# Altium schematic symbol library LAB_B3_209_V1.SchLib: 13 symbols
Pins are listed as number, name and electrical type; pins without a type are passive.

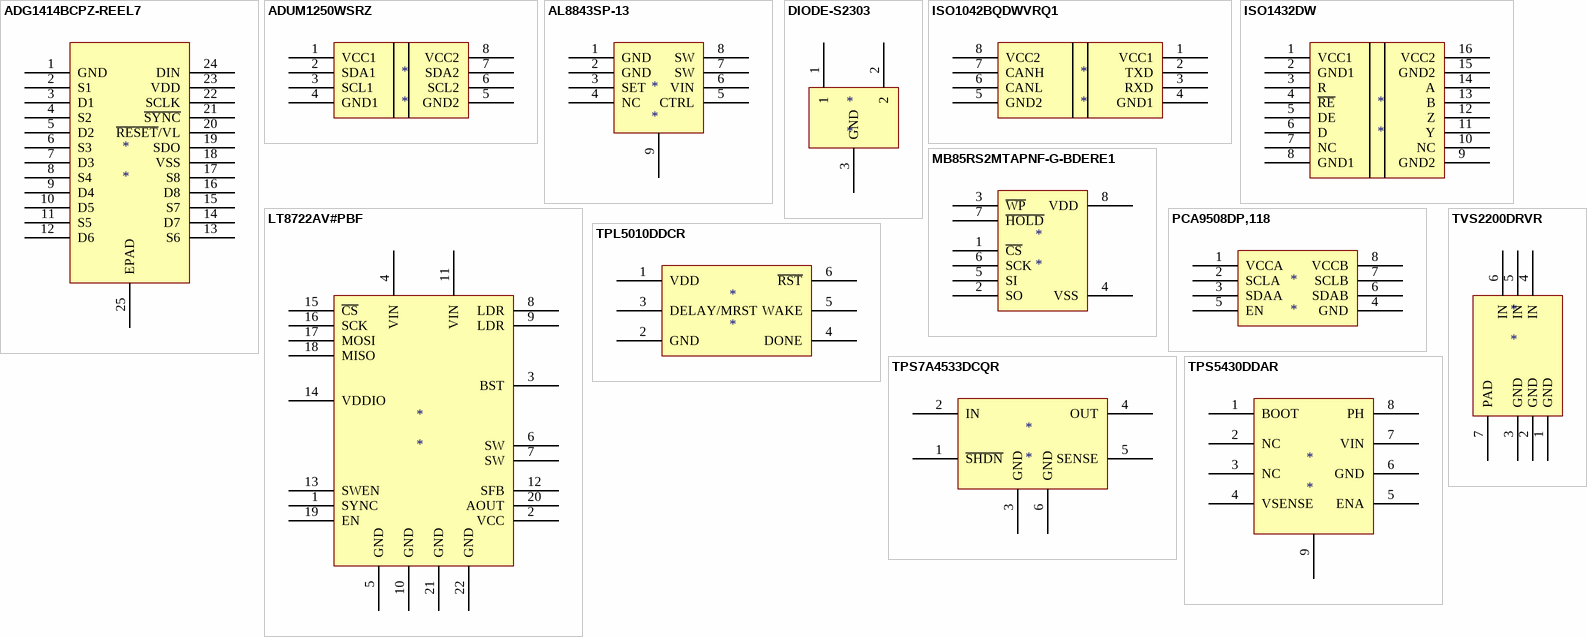
[diagram p0: symbols ADG1414BCPZ-REEL7 to TVS2200DRVR]

## ADG1414BCPZ-REEL7
designator *
footprint ADG1414BCPZ-REEL7 (PQFN, 24-Leads, Body 4.00x4.00mm, Pitch 0.50mm, Thermal Pad 2.50x2.50mm, IPC Medium Density)
pins: 1 GND, 2 S1, 3 D1, 4 S2, 5 D2, 6 S3, 7 D3, 8 S4, 9 D4, 10 D5, 11 S5, 12 D6, 13 S6, 14 D7, 15 S7, 16 D8, 17 S8, 18 VSS, 19 SDO, 20 ~{RESET}/VL, 21 ~{SYNC}, 22 SCLK, 23 VDD, 24 DIN, 25 EPAD

## ADUM1250WSRZ
designator *
footprint ADUM1250WSRZ
pins: 1 VCC1, 2 SDA1, 3 SCL1, 4 GND1, 5 GND2, 6 SCL2, 7 SDA2, 8 VCC2

## AL8843SP-13
designator *
footprint AL8843SP-13
pins: 1 GND, 2 GND, 3 SET, 4 NC, 5 CTRL, 6 VIN, 7 SW, 8 SW, 9 EPAD

## DIODE-S2303
designator *
footprint DIODE SOT23 (SOT 23 _ 1-3-2)
pins: 1, 2, 3 GND

## ISO1042BQDWVRQ1
designator *
footprint ISO1042BQDWVRQ1
pins: 1 VCC1, 2 TXD, 3 RXD, 4 GND1, 5 GND2, 6 CANL, 7 CANH, 8 VCC2

## ISO1432DW
designator *
footprint ISO1432DW
pins: 1 VCC1, 2 GND1, 3 R, 4 ~{RE}, 5 DE, 6 D, 7 NC, 8 GND1, 9 GND2, 10 NC, 11 Y, 12 Z, 13 B, 14 A, 15 GND2, 16 VCC2

## LT8722AV#PBF
designator *
footprint LT8722AV#PBF (QFN, 18-Leads, Body 3.00x3.00mm, Pitch 0.50mm, Thermal Pad 1.90x1.90mm, IPC Medium Density)
pins: 1 SYNC, 2 VCC, 3 BST, 4 VIN, 5 GND, 6 SW, 7 SW, 8 LDR, 9 LDR, 10 GND, 11 VIN, 12 SFB, 13 SWEN, 14 VDDIO, 15 ~{CS}, 16 SCK, 17 MOSI, 18 MISO, 19 EN, 20 AOUT, 21 GND, 22 GND

## MB85RS2MTAPNF-G-BDERE1
designator *
footprint MB85RS2MTAPNF-G-BDERE1 (SOP, 8-Leads, Body 4.90x3.90mm, Pitch 1.27mm, IPC Medium Density)
pins: 1 ~{CS}, 2 SO, 3 ~{WP}, 4 VSS, 5 SI, 6 SCK, 7 ~{HOLD}, 8 VDD

## PCA9508DP,118
designator *
footprint PCA9508DP,118
pins: 1 VCCA, 2 SCLA, 3 SDAA, 4 GND, 5 EN, 6 SDAB, 7 SCLB, 8 VCCB

## TPL5010DDCR
designator *
footprint TPL5010DDCR (SOT23, 6-Leads, Body 3.05x3.05mm, Pitch 0.95mm, IPC Medium Density)
pins: 1 VDD, 2 GND, 3 DELAY/MRST, 4 DONE, 5 WAKE, 6 ~{RST}

## TPS7A4533DCQR
designator *
footprint TPS7A4533DCQR (SOT223, 6-Leads, Body 6.50x7.06mm (avg), Pitch 1.27mm, IPC Medium Density)
pins: 1 ~{SHDN}, 2 IN, 3 GND, 4 OUT, 5 SENSE, 6 GND

## TPS5430DDAR
designator *
footprint TPS5430DDAR
pins: 1 BOOT, 2 NC, 3 NC, 4 VSENSE, 5 ENA, 6 GND, 7 VIN, 8 PH, 9 PAD

## TVS2200DRVR
designator *
footprint TVS2200DRVR (SON, 6-Leads, Body 2.00x2.00mm, Pitch 0.65mm, Thermal Pad 1.60x0.89mm, IPC Medium Density)
pins: 1 GND, 2 GND, 3 GND, 4 IN, 5 IN, 6 IN, 7 PAD